# Altium schematic symbol library EFC8811R-TF.SchLib: 1 symbol
Pins are listed as number, name and electrical type; pins without a type are passive.

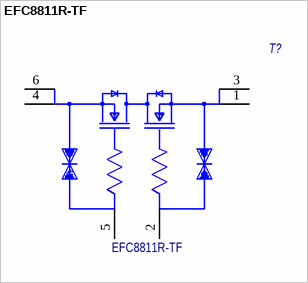
[diagram p0: symbol EFC8811R-TF]

## EFC8811R-TF
designator T?
Dual N-Channel power MOSFET; Потребление, Вт: 0.001; Назначение: Dual N-Channel power MOSFET; ComponentLink1Description: DataSheet; ComponentLink1URL: https://www.farnell.com/datasheets/2197419.pdf; Наименование: EFC8811R-TF
footprint FP-568AL-MFG
pins: 1 SOURCE1, 2 GATE1, 3 SOURCE1, 4 SOURCE2, 5 GATE2, 6 SOURCE2